# EAGLE library part LM2596 (library di_ic)
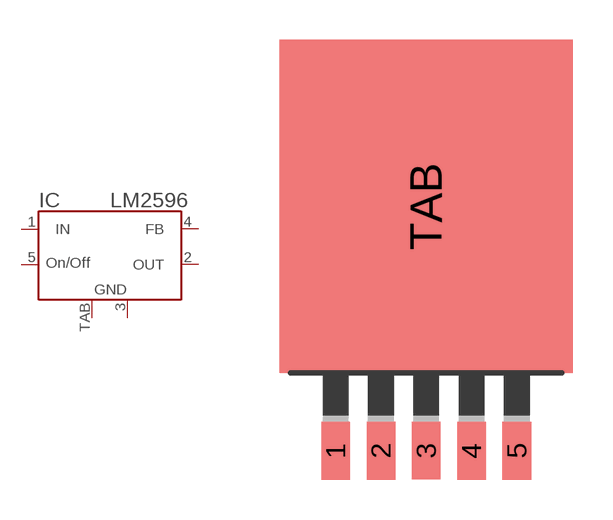
[diagram p14: symbol with the pads of TO263-5; footprint TO263-5]

Designator prefix IC

## LM2596  [TO263-5]
1  IN  pwr
2  OUT  pwr
3  GND  pwr
4  FB  pwr
5  ON/OFF  pwr
TAB  GND1  pwr

## Footprint TO263-5 (pad centres in mm)
smd 1.07 x 2.16: 1 -3.4,-5.8; 2 -1.7,-5.8; 4 1.7,-5.8; 5 3.4,-5.8
smd 1.067 x 2.159: 3 0,-5.791
smd 11 x 12.5: TAB 0,3.375